# Altium schematic symbol library LibTim_Passives.SchLib: 10 symbols
Pins are listed as number, name and electrical type; pins without a type are passive.

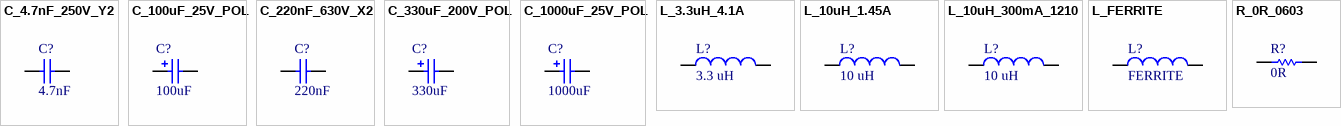
[diagram p0: symbols C_4.7nF_250V_Y2 to R_0R_0603]

## C_4.7nF_250V_Y2
designator C?, comment 4.7nF
CAP 4.7nF 250V Y2 EMI Suppression Capacitor; PartNumber: P271HL472M250; PackageDescription: Radial Lead Capacitor; Rated Voltage: 250 V; Value: 4.7nF
simulation model CAP (Semiconductor Capacitor)
signal-integrity model Cap Semi
footprint CAPRR1020W65L1350T510H1050
pins: 1, 2

## C_100uF_25V_POL
designator C?, comment 100uF
CAP POL 100uF 25V; PartNumber: ECA-1EM101; Manufacturer: Panasonic; Value: 100uF; Rated Voltage: 25 V
simulation model CAP (Capacitor)
signal-integrity model Cap Pol
footprint CAPRRD250W50D630H1120
pins: 1 -, 2 +
1 alternate drawing of the same symbol

## C_220nF_630V_X2
designator C?, comment 220nF
CAP 220nF 630V X2 EMI Suppression Capacitor; PartNumber: F17724222000; PackageDescription: Radial Lead Capacitor; Rated Voltage: 630 V; Value: 220nF
simulation model CAP (Semiconductor Capacitor)
signal-integrity model Cap Semi
footprint CAPRR2250W80L2650T850H1650
pins: 1, 2

## C_330uF_200V_POL
designator C?, comment 330uF
CAP POL 330uF 200V; PartNumber: ECA-2DM331; Value: 330uF; Rated Voltage: 200 V
simulation model CAP (Capacitor)
signal-integrity model Cap Pol
pins: 1 -, 2 +
1 alternate drawing of the same symbol

## C_1000uF_25V_POL
designator C?, comment 1000uF
CAP POL 1000uF 25V; PartNumber: ECA-1EM102; Manufacturer: Panasonic; Value: 1000uF; Rated Voltage: 25 V
simulation model CAP (Capacitor)
signal-integrity model Cap Pol
footprint CAPRRD500W60D1000H2000
pins: 1 -, 2 +
1 alternate drawing of the same symbol

## L_3.3uH_4.1A
designator L?, comment 3.3 uH
Inductor 3.3uH ±30%; PartNumber: CLF7045T-3R3N; Manufacturer: TDK; Rated Current: 4.1 A; Value: 3.3 uH; Tolerence: ±30%
simulation model INDUCTOR (Inductor)
signal-integrity model Inductor
footprint INDP7269X48M (Precision Wire Wound Inductor, 2-Leads, Body 7.20x6.90mm, IPC Low Density)
pins: 1, 2

## L_10uH_1.45A
designator L?, comment 10 uH
Inductor Power Wirewound 10uH 20% 1KHz 30Q-Factor Ferrite 1.45A 100mOhm DCR T/R; PartNumber: SDR0604-100ML; Manufacturer: Bourns; Tolerence: 20; PackageDescription: Precision Wire Wound Inductor, 2-Leads, Body 5.77x5.77mm, IPC Low Density; Rated Current: 1.45 A; Value: 10 uH; PackageReference: INDP5858X48M
simulation model INDUCTOR (Inductor)
signal-integrity model Inductor
footprint INDP5858X48M (Precision Wire Wound Inductor, 2-Leads, Body 5.77x5.77mm, IPC Low Density)
pins: 1, 2

## L_10uH_300mA_1210
designator L?, comment 10 uH
Inductor 10uH ±10%; PartNumber: LQH32CN100K23L; Manufacturer: Murata; Rated Current: 300 mA; PackageDescription: Chip Inductor; Value: 10 uH; Tolerence: ±10%; PackageReference: INDP7269X48M
simulation model INDUCTOR (Inductor)
signal-integrity model Inductor
footprint INDP3225X22M (Precision Wire Wound Inductor, 2-Leads, Body 3.25x2.50mm, IPC Low Density)
pins: 1, 2

## L_FERRITE
designator L?, comment FERRITE
Laird Ferrite Bead; PartNumber: MI0805K400R-10; Manufacturer: Laird Technologies; Code_IEC: 2012; PackageReference: 0805-A; PackageDescription: Chip Inductor; Code_JEITA: 0805; ComponentLink2Description: Datasheet; ComponentLink2URL: http://cdn.lairdtech.com/home/brandworld/files/MI0805K400R-10.pdf
simulation model INDUCTOR (Inductor)
signal-integrity model Inductor
footprint INDC2012X12M (Chip Inductor, 2-Leads, Body 2.00x1.25mm, IPC Low Density)
pins: 1, 2

## R_0R_0603
designator R?, comment 0R
0R 0.1W 5% 0603 (1608 Metric)  SMD; Case-Metric: 1608; Case-EIA: 0603; Power: 0.1 W; Technology: SMT; Value: 0R
footprint RESC0603(1608)_M (Chip Resistor, Body 1.6x0.8mm, IPC Low Density)
footprint RESC0603(1608)_N (Chip Resistor, Body 1.6x0.8mm, IPC Medium Density)
footprint RESC0603(1608)_L (Chip Resistor, Body 1.6x0.8mm, IPC High Density)
pins: 1, 2
1 alternate drawing of the same symbol